# Altium schematic symbol library LO P47K.Schlib: 1 symbol
Pins are listed as number, name and electrical type; pins without a type are passive.

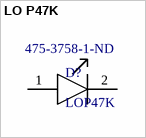
[diagram p0: symbol LO P47K]

## LO P47K
designator D?, comment LOP47K  Supplier Part Number 1: 475-3758-1-ND
LED ORANGE CLEAR SMD BOTTOM ENTRY; Supplier 1: Digi-Key
footprint LB P4SG (Footprint for a reverse-mount Osram LED)
pins: 1 Anode, 2 Cathode